# Altium schematic symbol library TX30.SCHLIB: 1 symbol
Pins are listed as number, name and electrical type; pins without a type are passive.

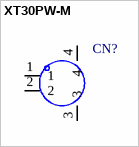
[diagram p0: symbol XT30PW-M]

## XT30PW-M
designator CN?
Manufacturer: AMASS(艾迈斯); Symbol: XT30PW-M; Add into BOM: yes; Device: XT30PW-M; LCSC Part Name: XT30PW-M公头; Supplier Part: C431092; Manufacturer Part: XT30PW-M; Supplier Footprint: Through Hole; JLCPCB Part Class: Extended Part; Datasheet: https://atta.szlcsc.com/upload/public/pdf/source/20220222/6A9F22F7850E25B33E1BE430ADF8560B.pdf; Supplier: LCSC; Convert to PCB: yes
footprint CONN-TH_XT30PW-M
3D model CONN-TH_XT30PW-M
pins: 1, 2, 3, 4